# EAGLE library part INA260AIPW (library APU_ENGR480_UPS_EAGLE_Library)
36V, Bi-Dir, High Accuracy, Low-/High-Side, I2C Current/Pwr Monitor w/Integrated 2m Shunt Resistor Source: Datasheet <http://www.ti.com/lit/gpn/ina260>
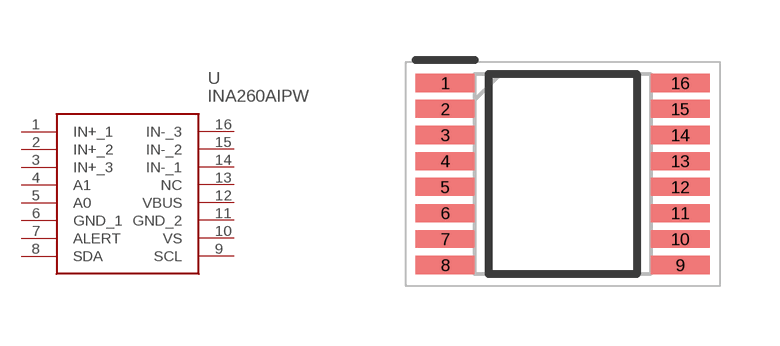
[diagram p5: symbol with the pads of SOP65P640X120-16N; footprint SOP65P640X120-16N]

Designator prefix U

## INA260AIPW (DESCRIPTION: 36V, Bi-Dir, High Accuracy, Low-/High-Side, I2C Current/Pwr Monitor w/Integrated 2m Shunt Resistor; HEIGHT: 1.2mm; MANUFACTURER_NAME: Texas Instruments; MANUFACTURER_PART_NUMBER: INA260AIPW; MOUSER_PART_NUMBER: 595-INA260AIPW; MOUSER_PRICE-STOCK: https://www.mouser.com/Search/Refine.aspx?Keyword=595-INA260AIPW)  [SOP65P640X120-16N]
1  IN+_1
2  IN+_2
3  IN+_3
4  A1  in
5  A0  in
6  GND_1  pwr
7  ALERT  out
8  SDA
9  SCL
10  VS  pwr
11  GND_2  pwr
12  VBUS  pwr
13  NC  nc
14  IN-_1
15  IN-_2
16  IN-_3

## Footprint SOP65P640X120-16N (pad centres in mm)
PW (R-PDSO-G16)
smd 1.475 x 0.45: 1 -2.938,2.275; 2 -2.938,1.625; 3 -2.938,0.975; 4 -2.938,0.325; 5 -2.938,-0.325; 6 -2.938,-0.975; 7 -2.938,-1.625; 8 -2.938,-2.275; 9 2.938,-2.275; 10 2.938,-1.625; 11 2.938,-0.975; 12 2.938,-0.325; 13 2.938,0.325; 14 2.938,0.975; 15 2.938,1.625; 16 2.938,2.275